# EAGLE library part SLIDE_SWITCH (library HW4)
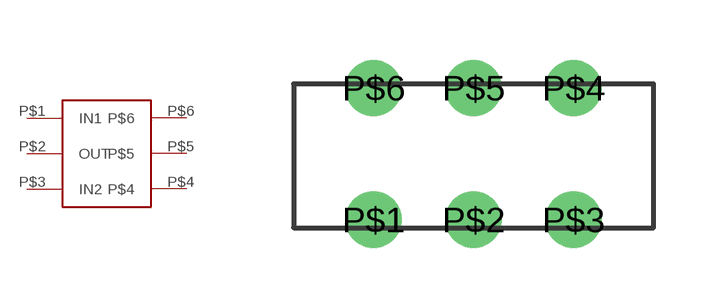
[diagram p1: symbol with the pads of SLIDE; footprint SLIDE]

Designator prefix -

## SLIDE_SWITCH  [SLIDE]
P$1  IN1
P$2  OUT
P$3  IN2
P$4  P$4
P$5  P$5
P$6  P$6

## Footprint SLIDE (pad centres in mm)
drill 0.9: P$1 0,0; P$2 2.5,0; P$3 5,0; P$4 5,3.3; P$5 2.5,3.3; P$6 0,3.3